# Altium schematic symbol library PASSIVES.SchLib: 33 symbols
Pins are listed as number, name and electrical type; pins without a type are passive.

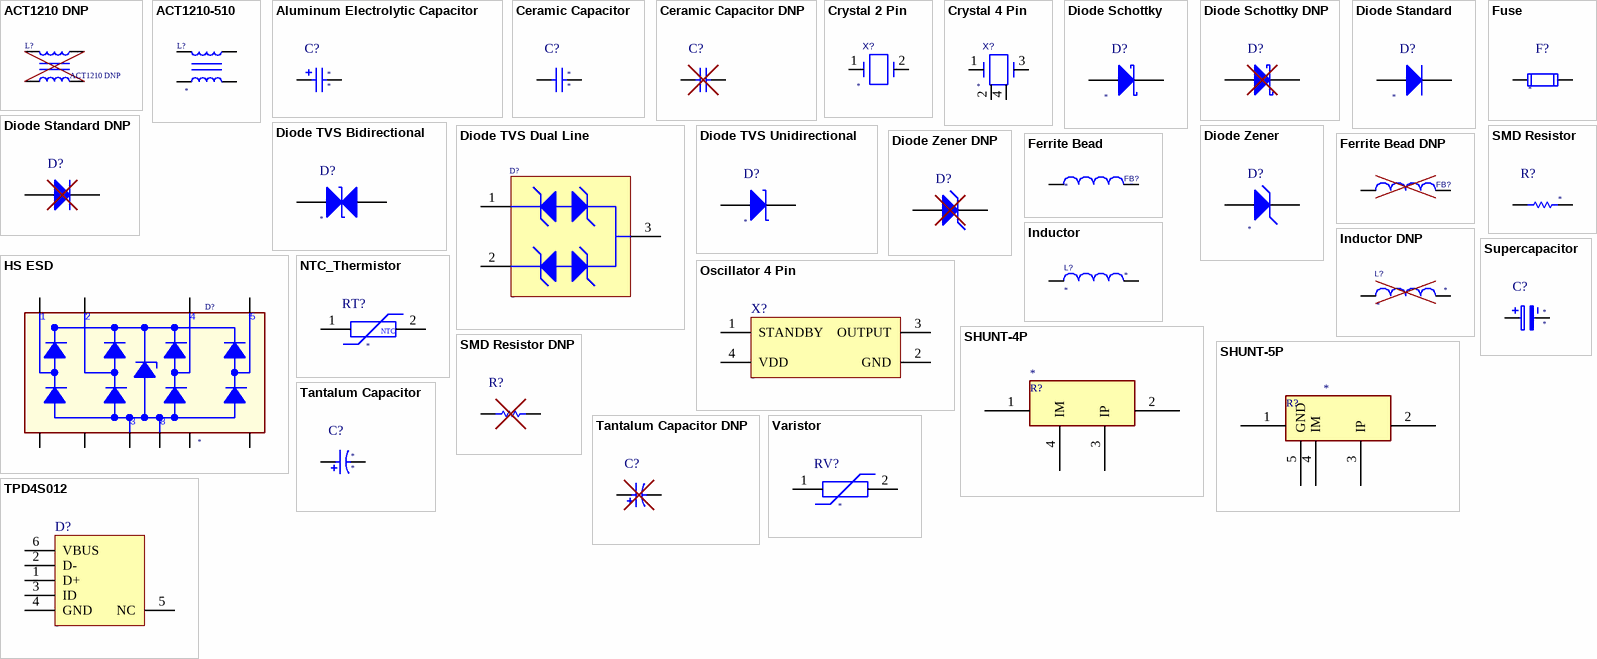
[diagram p0: symbols ACT1210 DNP to Varistor]

## ACT1210 DNP
designator L?  (no BOM)
pins: 1, 2, 3 2, 4 1

## ACT1210-510
designator L?
CMC 51UH 200MA 2LN SMD AEC-Q200; Manufacture Part Number: *
pins: 1, 2, 3 2, 4 1

## Aluminum Electrolytic Capacitor
designator C?
Capacitance: *; Voltage Rating: *
pins: 1, 2

## Ceramic Capacitor
designator C?
Capacitance: *; Voltage Rating: *
pins: 1, 2

## Ceramic Capacitor DNP
designator C?  (value not drawn)  (no BOM)
pins: 1, 2

## Crystal 2 Pin
designator X?
Manufacturer Part Number: *
pins: 1, 2

## Crystal 4 Pin
designator X?
Manufacturer Part Number: *
pins: 1, 2, 3, 4

## Diode Schottky
designator D?
Manufacturer Part Number: *
pins: 1 K, 2 A

## Diode Schottky DNP
designator D?  (value not drawn)  (no BOM)
pins: 1 K, 2 A

## Diode Standard
designator D?
Manufacturer Part Number: *
pins: 1 K, 2 A

## Diode Standard DNP
designator D?  (value not drawn)  (no BOM)
pins: 1 K, 2 A

## Diode TVS Bidirectional
designator D?
Manufacturer Part Number: *
pins: 1 K, 2 A

## Diode TVS Dual Line
designator D?
Dual Line TVS; Manufacturer Part Number: *
pins: 1, 2, 3

## Diode TVS Unidirectional
designator D?
Manufacturer Part Number: *
pins: 1 K, 2 A

## Diode Zener
designator D?
Manufacturer Part Number: *
pins: 1 K, 2 A

## Diode Zener DNP
designator D?  (value not drawn)  (no BOM)
pins: 1 K, 2 A

## Ferrite Bead
designator FB?
Manufacturer Part Number: *
pins: 1, 2

## Ferrite Bead DNP
designator FB?  (value not drawn)  (no BOM)
pins: 1, 2

## Fuse
designator F?
Manufacturer Part Number: *
pins: 1, 2

## HS ESD
designator D?
TVS DIODE 3V 15V; Manufacturer Part Number: *
pins: 1, 2, 3, 4, 5, 6, 7, 8, 9, 10

## Inductor
designator L?
Inductance: *; Manufacturer Part Number: *
pins: 1, 2

## Inductor DNP
designator L?  (no BOM)
Inductance: *; Manufacturer Part Number: *
pins: 1, 2

## NTC_Thermistor
designator RT?
Manufacturer Part Number: *
pins: 1, 2
text: NTC

## Oscillator 4 Pin
designator X?
Manufacturer Part Number: *
pins: 1 STANDBY, 2 GND, 3 OUTPUT, 4 VDD

## SHUNT-4P
designator R?
RES SMD 500 UOHM 1% 5W 4026; Manufacturer Part Number: *
pins: 1, 2, 3 IP, 4 IM

## SHUNT-5P
designator R?
RES SMD 500 UOHM 1% 5W 4026; Manufacturer Part Number: *
pins: 1, 2, 3 IP, 4 IM, 5 GND

## SMD Resistor
designator R?
Resistance: *
pins: 1, 2

## SMD Resistor DNP
designator R?  (value not drawn)  (no BOM)
pins: 1, 2

## Supercapacitor
designator C?
Capacitance: *; Voltage Rating: *
pins: 1, 2

## Tantalum Capacitor
designator C?
Capacitance: *; Voltage Rating: *
pins: 1, 2

## Tantalum Capacitor DNP
designator C?  (value not drawn)  (no BOM)
pins: 1, 2

## TPD4S012
designator D?
TVS DIODE 5.5V; Manufacturer Part Number: *
pins: 1 D+ "Provides ESD protection to the high-speed differential data line", 2 D- "Provides ESD protection to the high-speed differential data line", 3 ID "Provides ESD protection to the high-speed differential data line", 4 GND "Ground", 5 NC "Not internally connected", 6 VBUS "ESD clamp for high-voltage tolerant VBUS line"

## Varistor
designator RV?
Manufacturer Part Number: *
pins: 1, 2